# EAGLE library part TPS63036 (library Eric Navarrete Custom Parts Feb 2019)
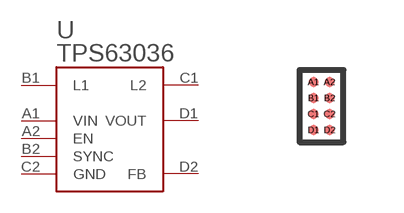
[diagram p23: symbol with the pads of WCSP(8); footprint WCSP(8)]

Designator prefix U

## TPS63036  [WCSP(8)]
A1  VIN
A2  EN
B1  L1
B2  SYNC
C1  L2
C2  GND
D1  VOUT
D2  FB

## Footprint WCSP(8) (pad centres in mm)
smd 0.25 x 0.25: A1 -0.2,0.6; A2 0.2,0.6; B1 -0.2,0.2; B2 0.2,0.2; C1 -0.2,-0.2; C2 0.2,-0.2; D1 -0.2,-0.6; D2 0.2,-0.6